# EAGLE library part DS1802 (library Dek)
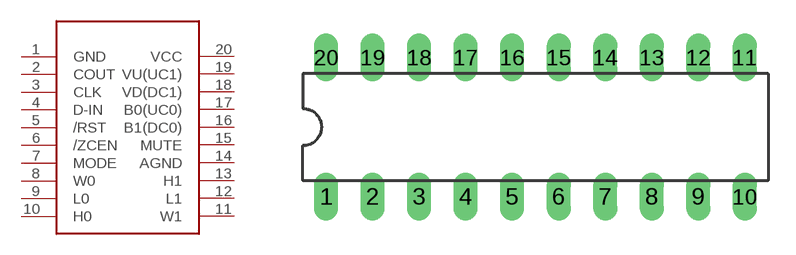
[diagram p4: symbol with the pads of DIL20; footprint DIL20]

Designator prefix -

## DS1802PB  [DIL20]
1  GND
2  COUT
3  CLK
4  D-IN
5  /RST
6  /ZCEN
7  MODE
8  W0
9  L0
10  H0
11  W1
12  L1
13  H1
14  AGND
15  MUTE
16  B1(DC0)
17  B0(UC0)
18  VD(DC1)
19  VU(UC1)
20  VCC

## Footprint DIL20 (pad centres in mm)
Dual In Line Package
drill 0.813 long: 1 -11.43,-3.81; 2 -8.89,-3.81; 3 -6.35,-3.81; 4 -3.81,-3.81; 5 -1.27,-3.81; 6 1.27,-3.81; 7 3.81,-3.81; 8 6.35,-3.81; 9 8.89,-3.81; 10 11.43,-3.81; 11 11.43,3.81; 12 8.89,3.81; 13 6.35,3.81; 14 3.81,3.81; 15 1.27,3.81; 16 -1.27,3.81; 17 -3.81,3.81; 18 -6.35,3.81; 19 -8.89,3.81; 20 -11.43,3.81